# Altium schematic symbol library USB3.0-A_SMT.SchLib: 1 symbol
Pins are listed as number, name and electrical type; pins without a type are passive.

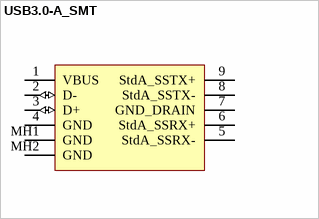
[diagram p0: symbol USB3.0-A_SMT]

## USB3.0-A_SMT
designator J?
USB 3.0 Type A Horizontal SMD WR-COM
pins: 1 VBUS (power), 2 D- (io), 3 D+ (io), 4 GND, 5 StdA_SSRX-, 6 StdA_SSRX+, 7 GND_DRAIN, 8 StdA_SSTX-, 9 StdA_SSTX+, MH1 GND (power), MH2 GND (power)